# Altium schematic symbol library InMotion Logo.Schlib: 1 symbol
Pins are listed as number, name and electrical type; pins without a type are passive.

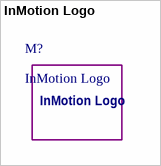
[diagram p0: symbol InMotion Logo]

## InMotion Logo
designator M?  (no BOM)